# Altium integrated library BD82043FVJ_HIGH_SIDE_SW.IntLib: 1 symbol
Pins are listed as number, name and electrical type; pins without a type are passive.

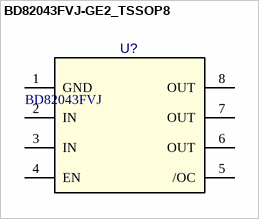
[diagram p0: symbol BD82043FVJ-GE2_TSSOP8]

## BD82043FVJ-GE2_TSSOP8
designator U?, comment BD82043FVJ
Power Switch / Driver 1:1 N-Channel 2A; Package: SO8; EDM-PN: *; Text2: *; Text1: *; Value: BD82043FVJ; DCE Part No: *; Part Number: BD82043FVJ; Supplier 1: RSComponents; Supplier Part Number 1: 1887052
footprint TSSOP8-3.1x3.0 (TSSOP, 8-Leads, Body 3.2x2.9mm (max), Pitch 0.65mm, IPC Medium Density)
pins: 1 GND (power), 2 IN (power), 3 IN (power), 4 EN (power), 5 /OC, 6 OUT, 7 OUT, 8 OUT